# Altium schematic symbol library RCU.SchLib: 177 symbols (part 1 of 2)
Pins are listed as number, name and electrical type; pins without a type are passive.

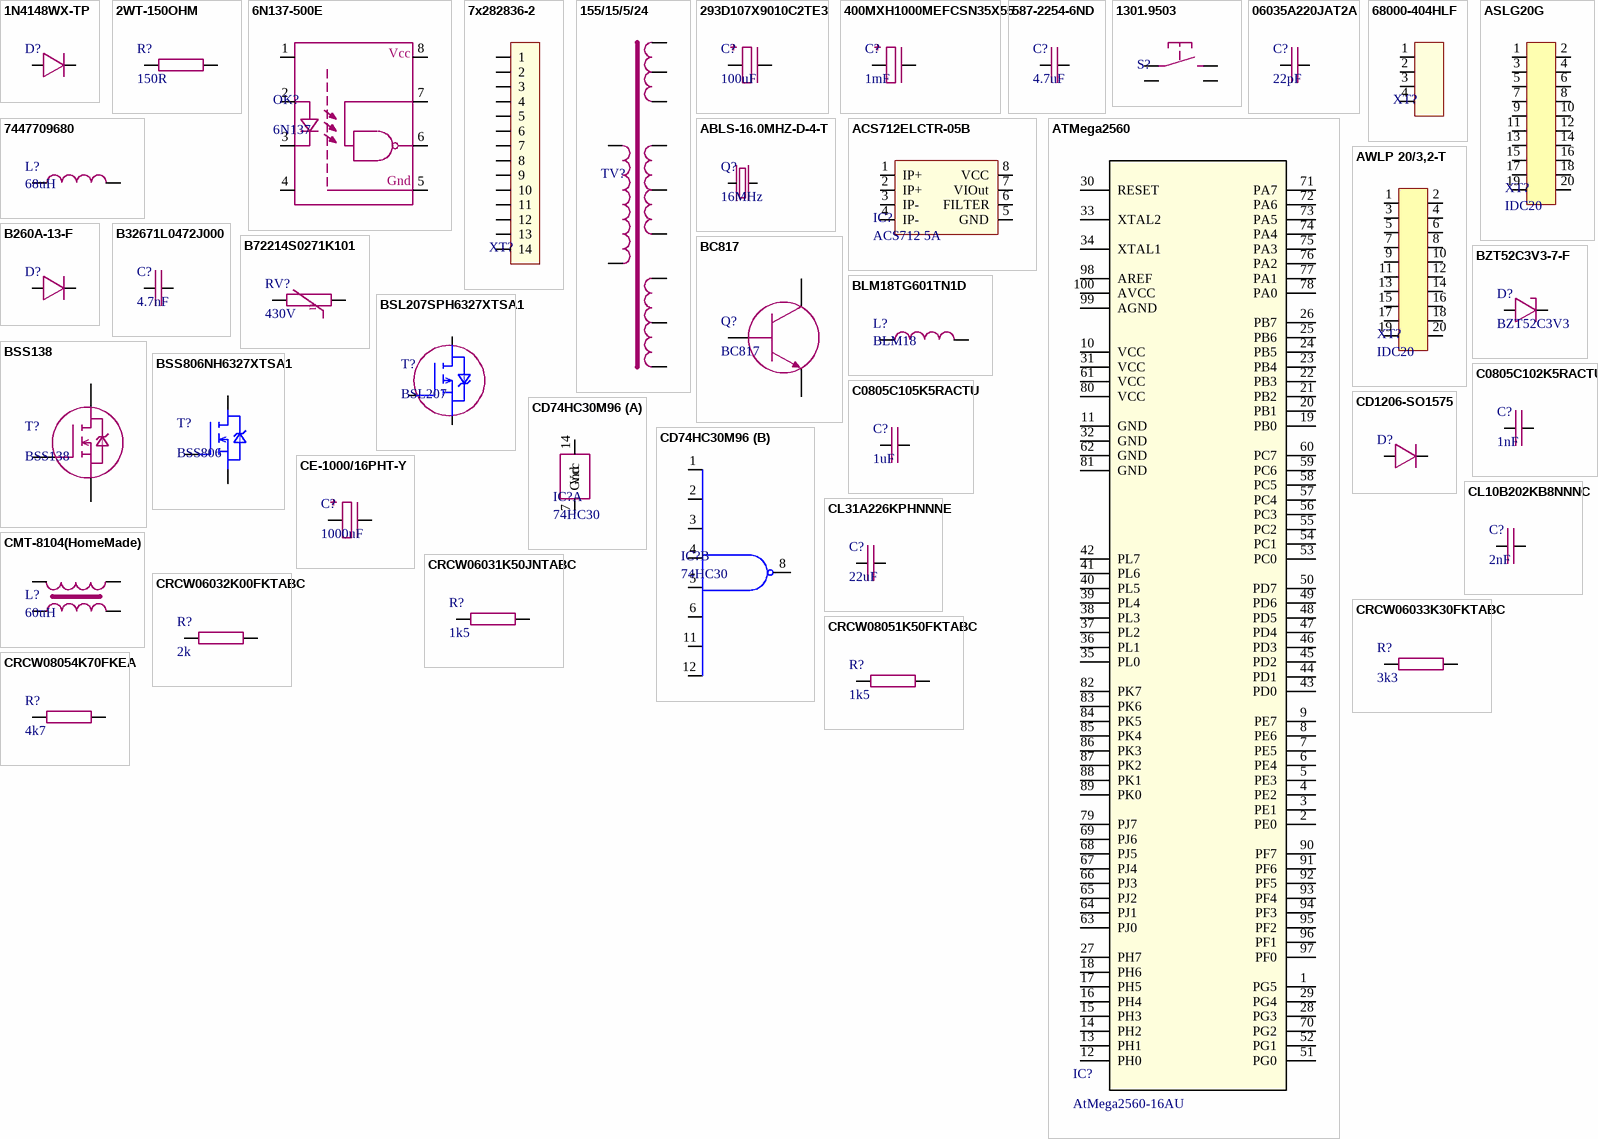
[diagram p0: symbols 1N4148WX-TP to CRCW08054K70FKEA]

## 1N4148WX-TP
designator D?, comment 1N4148W  (value not drawn)
DIODE GEN PURP 75V 150MA SOD323; Manufacturer Part Number: 1N4148WX-TP; Category: Discrete Semiconductor Products; Package / Case: SC-76, SOD-323; Base Part Number: 1N4148WX
footprint SOD323 (diode(in SMD pack))
pins: 1 Anode, 2 Cathode

## 2WT-150OHM
designator R?, comment 150R
RES THT 150 OHM 5% 2W; Manufacturer Part Number: 2WT-150OHM; Category: Resistors
footprint Resistor_2W-2 (15mm)
pins: 1, 2

## 6N137-500E
designator OK?, comment 6N137
OPTOISO 3.75KV OPEN COLL 8DIP GW; Manufacturer Part Number: 6N137-500E; Category: Isolators; Package / Case: 8-SMD, Gull Wing; ComponentLink1URL: http://www.vishay.com/docs/83622/il300.pdf; ComponentLink1Description: http://www.vishay.com/docs/83622/il300.pdf
footprint PDIP8_SMD
pins: 1 N/C, 2 Anode, 3 Cathode, 4 N/C, 5 Vee, 6 Vo, 7 Vo, 8 Vcc
text: Gnd

## 7x282836-2
designator XT?  (value not drawn)
TERM BLOCK 7x2POS 5MM PCB HORIZ; Manufacturer Part Number: 282836-2; Category: Connectors, Interconnects
footprint Terminal 7x2 5mm Pitch (Terminal BLOCK 5mm, 7x 2 wires)
pins: 1, 2, 3, 4, 5, 6, 7, 8, 9, 10, 11, 12, 13, 14

## 155/15/5/24
designator TV?, comment Main  (value not drawn)
Manufacturer Part Number: CMT-8104(HomeMade); Category: Filters; Package / Case: Vertical, 4 PC Pin
footprint TVMain
pins: 1 INPUT, 2 INPUT, 4, 5, 6, 7, 8, 9, 10, 11, 12

## 293D107X9010C2TE3
designator C?, comment 100uF
CAP TANT 100UF 10V 10% 2312; Manufacturer Part Number: 293D107X9010C2TE3; Category: Capacitors; Package / Case: 2312 (6032 Metric)
footprint 2312(Tantal C)
pins: 1 +, 2 -

## 400MXH1000MEFCSN35X55
designator C?, comment 1mF
CAP ALUM 1000UF 20% 400V SNAP; Manufacturer Part Number: 400MXH1000MEFCSN35X55; Category: Capacitors; Package / Case: Radial, Can - Snap-In
footprint CAP400x1000
pins: 1 +, 2 -

## 587-2254-6ND
designator C?, comment 4.7uF
CAP CER 4.7UF 35V Y5V 1206; Manufacturer Part Number: GMK316F475ZG-T; Category: Capacitors; Package / Case: 1206 (3216 Metric)
footprint C1206
pins: 1, 2

## 1301.9503
designator S?  (value not drawn)
SWITCH TACTILE HOR SPST-NO 0.05A 12V; Manufacturer Part Number: 1301.9503; Category: Switches
footprint SW_TACT_HOR
pins: 1, 2, 3, 4

## 06035A220JAT2A
designator C?, comment 22pF
CAP CER 22PF 50V C0G/NP0 0603; Manufacturer Part Number: 06035A220JAT2A; Category: Capacitors; Package / Case: 0603 (1608 Metric); ComponentLink3URL: http://datasheets.avx.com/C0GNP0-Dielectric.pdf; ComponentLink3Description: http://datasheets.avx.com/C0GNP0-Dielectric.pdf
footprint C0603
pins: 1, 2

## 68000-404HLF
designator XT?, comment PLS-4  (value not drawn)
CONN HEADER 4POS .100 STR TIN; Manufacturer Part Number: 68000-404HLF; Category: Connectors, Interconnects
footprint PLS-4
pins: 1, 2, 3, 4

## 7447709680
designator L?, comment 68uH
FIXED IND 68UH 3.2A 89 MOHM SMD; Manufacturer Part Number: 7447709680; Category: Inductors, Coils, Chokes; Package / Case: Nonstandard(12.8x12.8)
footprint B82477G4
pins: 1, 2

## ABLS-16.0MHZ-D-4-T
designator Q?, comment 16MHz
CRYSTAL 16.0000MHZ 18PF SMD; Manufacturer Part Number: ABLS-16.000MHZ-D-4-T; Package / Case: HC49/US; Category: Crystals, Oscillators, Resonators
footprint CrystalSMD (HC/49US (AT49) SMD LOW PROFILE CRYSTAL)
pins: 1, 2

## ACS712ELCTR-05B
designator IC?, comment ACS712 5A
SENSOR CURRENT HALL 5A AC/DC; Manufacturer Part Number: ACS712ELCTR-05B-T; Category: Sensors, Transducers; Package / Case: 8-SOIC (0.154", 3.90mm Width)
footprint SOIC_N (SOIC, 8-Leads, Body 4.9x3.9mm, Pitch 1.27mm, IPC Medium Density)
pins: 1 IP+, 2 IP+, 3 IP-, 4 IP-, 5 GND, 6 FILTER, 7 VIOut, 8 VCC

## ASLG20G
designator XT?, comment IDC20
CONN DIP 20POS .1" X .1" TIN; Manufacturer Part Number: ASLG20G; Category: Connectors, Interconnects
footprint IDC20Vert
pins: 1, 2, 3, 4, 5, 6, 7, 8, 9, 10, 11, 12, 13, 14, 15, 16, 17, 18, 19, 20

## ATMega2560
designator IC?, comment AtMega2560-16AU
IC MCU 8BIT 256KB FLASH 100TQFP; Category: Integrated Circuits (ICs); Manufacturer Part Number: ATMEGA2560-16AU; Package / Case: 100-TQFP
footprint 100TQFN (Thin QFP, 100-Leads, Body 14x14mm, Pitch 0.5mm, IPC Medium Density)
pins: 1 PG5, 2 PE0, 3 PE1, 4 PE2, 5 PE3, 6 PE4, 7 PE5, 8 PE6, 9 PE7, 10 VCC, 11 GND, 12 PH0, 13 PH1, 14 PH2, 15 PH3, 16 PH4, 17 PH5, 18 PH6, 19 PB0, 20 PB1, 21 PB2, 22 PB3, 23 PB4, 24 PB5, 25 PB6, 26 PB7, 27 PH7, 28 PG3, 29 PG4, 30 RESET, 31 VCC, 32 GND, 33 XTAL2, 34 XTAL1, 35 PL0, 36 PL1, 37 PL2, 38 PL3, 39 PL4, 40 PL5, 41 PL6, 42 PL7, 43 PD0, 44 PD1, 45 PD2, 46 PD3, 47 PD4, 48 PD5, 49 PD6, 50 PD7, 51 PG0, 52 PG1, 53 PC0, 54 PC1, 55 PC2, 56 PC3, 57 PC4, 58 PC5, 59 PC6, 60 PC7, 61 VCC, 62 GND, 63 PJ0, 64 PJ1, 65 PJ2, 66 PJ3, 67 PJ4, 68 PJ5, 69 PJ6, 70 PG2, 71 PA7, 72 PA6, 73 PA5, 74 PA4, 75 PA3, 76 PA2, 77 PA1, 78 PA0, 79 PJ7, 80 VCC, 81 GND, 82 PK7, 83 PK6, 84 PK5, 85 PK4, 86 PK3, 87 PK2, 88 PK1, 89 PK0, 90 PF7, 91 PF6, 92 PF5, 93 PF4, 94 PF3, 95 PF2, 96 PF1, 97 PF0, 98 AREF, 99 AGND, 100 AVCC

## AWLP 20/3,2-T
designator XT?, comment IDC20
CONN DIP 20POS .1" X .1" TIN; Manufacturer Part Number: AWLP 20/3,2-T; Category: Connectors, Interconnects
footprint IDC20Vert1
pins: 1, 2, 3, 4, 5, 6, 7, 8, 9, 10, 11, 12, 13, 14, 15, 16, 17, 18, 19, 20

## B260A-13-F
designator D?  (value not drawn)
DIODE SCHOTTKY 2A 40V SMA; Category: Discrete Semiconductor Products; Manufacturer Part Number: B260A-13-F; Package / Case: DO-214AC, SMA
footprint SMA (4007 diode(in SMD pack))
pins: 1 Anode, 2 Cathode

## B32671L0472J000
designator C?, comment 4.7nF
CAP FILM 4700PF 5% 1KVDC RADIAL; Manufacturer Part Number: B32671L0472J000; Category: Capacitors; Package / Case: Radial
footprint CAPPeach10mm
pins: 1, 2

## B72214S0271K101
designator RV?, comment 430V
VARISTOR 430V 4.5KA DISC 14MM; Manufacturer Part Number: B72214S0271K101; Category: Resistors; Package / Case: Disc 14mm
footprint S20K275 (Varistor EPCOS)
pins: 1, 2
text: u

## BC817
designator Q?
TRANS NPN 45V 0.5A SOT-23; Manufacturer Part Number: BC817-40LT3G; Category: Discrete Semiconductor Products; Package / Case: SOT-23-3
footprint SOT-23
pins: 1 gate, 2 emitter, 3 collector

## BLM18TG601TN1D
designator L?, comment BLM18
FERRITE BEAD 600 OHM 0603 1LN; Manufacturer Part Number: BLM18TG601TN1D; Category: Filters; Package / Case: 0603 (1608 Metric)
footprint L0603
pins: 1, 2

## BSL207SPH6327XTSA1
designator T?, comment BSL207
MOSFET P-CH 20V 6A 6TSOP; Manufacturer Part Number: BSL207SPH6327XTSA1; Category: Discrete Semiconductor Products; Package / Case: SOT-23-6 Thin, TSOT-23-6
footprint SOT23-6 - mosfet (SOT23, 6-Leads, Body 2,90x2,85mm, Pitch 0,95mm, IPC Medium Density)
pins: 1 GATE, 2 DRAIN, 3 SOURSE

## BSS138
designator T?
MOSFET N-CH 50V 220MA SOT-23; Category: Discrete Semiconductor Products; Manufacturer Part Number: BSS138; Package / Case: TO-236-3, SC-59, SOT-23-3
footprint SOT95P240X120-3N (SOT23, 3-Leads, Body 2,92x2,40mm, Pitch 0,95mm, IPC Medium Density)
pins: 1 GATE, 2 SOURSE, 3 DRAIN

## BSS806NH6327XTSA1
designator T?, comment BSS806
MOSFET N-CH 20V 2.3A SOT23; Manufacturer Part Number: BSS806NH6327XTSA1; Category: Discrete Semiconductor Products; Package / Case: TO-236-3, SC-59, SOT-23-3
footprint SOT-23
pins: 1 GATE, 2 SOURSE, 3 DRAIN

## BZT52C3V3-7-F
designator D?, comment BZT52C3V3
Diode Zener Single 3.3V 6% 370mW 2-Pin SOD-123 T/R; Manufacturer Part Number: BZT52C3V3-7-F; Category: Discrete Semiconductor Products; Package / Case: SOD-123
footprint SOD123 (diode(in SMD pack))
pins: 1 Anode, 2 Cathode

## C0805C102K5RACTU
designator C?, comment 1nF
CAP CER 1000PF 50V X7R 0805; Manufacturer Part Number: C0805C102K5RACTU; Category: Capacitors; Package / Case: 0805 (2012 Metric)
footprint C0805
pins: 1, 2

## C0805C105K5RACTU
designator C?, comment 1uF
CAP CER 1UF 50V X7R 0805; Manufacturer Part Number: C0805C105K5RACTU; Category: Capacitors; Package / Case: 0805 (2012 Metric)
footprint C0805
pins: 1, 2

## CD74HC30M96
designator IC?, comment 74HC30
IC GATE NAND 1CH 8-INP 14-SOIC; Manufacturer Part Number: CD74HC30M96; Category: Integrated Circuits (ICs); Package / Case: 14-SOIC (0.154", 3.90mm Width)
footprint SOIC-14N (SOIC, 14-Leads, Body 8,65x3,90mm, Pitch 1,27mm, IPC Medium Density)
part A pins: 7 Gnd, 14 Vcc
part B pins: 1, 2, 3, 4, 5, 6, 8, 11, 12

## CD1206-SO1575
designator D?  (value not drawn)
DIODE GEN PURP 100V 150MA 1206; Manufacturer Part Number: CD1206-S01575; Category: Discrete Semiconductor Products; Package / Case: 1206 (3216 Metric)
footprint D1206
pins: 1 Anode, 2 Cathode

## CE-1000/16PHT-Y
designator C?, comment 1000uF
CAP ALUM 1000UF 20% 16V RADIAL; Manufacturer Part Number: CE-1000/16PHT-Y; Category: Capacitors; Package / Case: Radial, Can
footprint CAP10x12
pins: 1 +, 2 -

## CL10B202KB8NNNC
designator C?, comment 2nF
CAP CER 2000PF 50V X7R 0603; Manufacturer Part Number: CL10B202KB8NNNC; Category: Capacitors; Package / Case: 0603 (1608 Metric); ComponentLink1URL: https://search.kemet.com/component-edge/download/datasheet/C0603C104K5RACTU.pdf; ComponentLink1Description: https://search.kemet.com/component-edge/download/datasheet/C0603C104K5RACTU.pdf; ComponentLink2URL: http://media.digikey.com/pdf/Data%20Sheets/Samsung%20PDFs/CL_Series_MLCC_ds.pdf; ComponentLink2Description: http://media.digikey.com/pdf/Data%20Sheets/Samsung%20PDFs/CL_Series_MLCC_ds.pdf
footprint C0603
pins: 1, 2

## CL31A226KPHNNNE
designator C?, comment 22uF
CAP CER 22UF 10V X5R 1206; Manufacturer Part Number: CL31A226KPHNNNE; Category: Capacitors; Package / Case: 1206 (3216 Metric)
footprint C1206
pins: 1, 2

## CMT-8104(HomeMade)
designator L?, comment 60uH
COMMON MODE CHOKE 30A 2LN TH; Manufacturer Part Number: CMT-8104(HomeMade); Category: Filters; Package / Case: Vertical, 4 PC Pin
footprint Inductor (Common Mode Inductor)
pins: 1, 2, 3, 4

## CRCW06031K50JNTABC
designator R?, comment 1k5
RES SMD 1K5 OHM 5% 1/10W 0603; Manufacturer Part Number: CRCW06031K50JNTABC; Category: Resistors; Package / Case: 0603 (1608 Metric)
footprint R0603
pins: 1, 2

## CRCW06032K00FKTABC
designator R?, comment 2k
RES SMD 2K OHM 1% 1/10W 0603; Manufacturer Part Number: CRCW06032K00FKTABC; Category: Resistors; Package / Case: 0603 (1608 Metric)
footprint R0603
pins: 1, 2

## CRCW06033K30FKTABC
designator R?, comment 3k3
RES SMD 3.3K OHM 1% 1/10W 0603; Manufacturer Part Number: CRCW06033K30FKTABC; Category: Resistors; Package / Case: 0603 (1608 Metric)
footprint R0603
pins: 1, 2

## CRCW08051K50FKTABC
designator R?, comment 1k5
RES SMD 1.5K OHM 1% 1/8W 0805; Manufacturer Part Number: CRCW08051K50FKTABC; Category: Resistors; Package / Case: 0805 (2012 Metric)
footprint R0805
pins: 1, 2

## CRCW08054K70FKEA
designator R?, comment 4k7
RES SMD 4.7K OHM 1% 1/8W 0805; Manufacturer Part Number: CRCW08054K70FKEA; Category: Resistors; Package / Case: 0805 (2012 Metric)
footprint R0805
pins: 1, 2

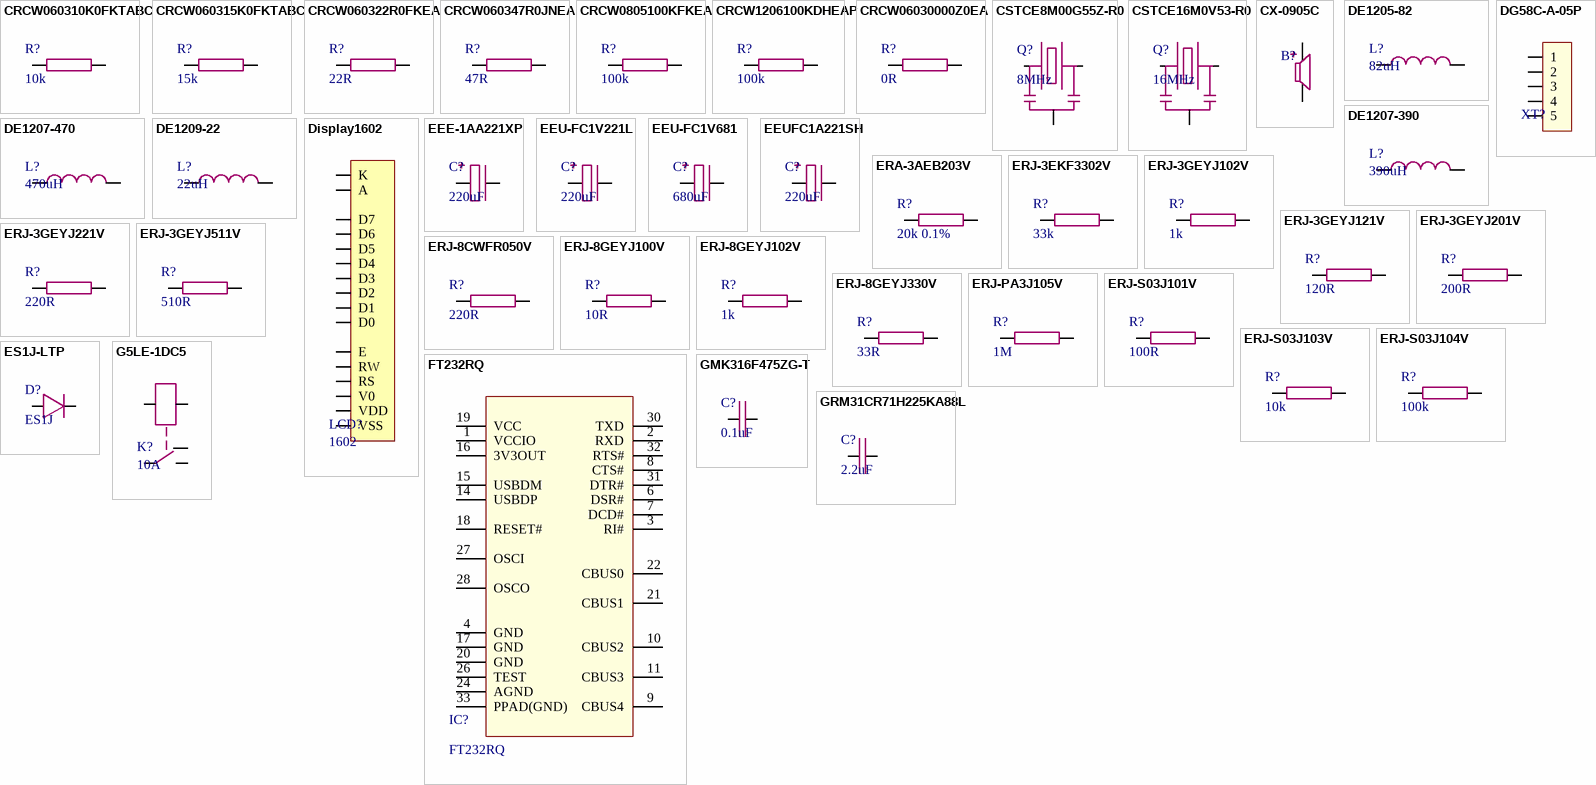
[diagram p1: symbols CRCW060310K0FKTABC to GRM31CR71H225KA88L]

## CRCW060310K0FKTABC
designator R?, comment 10k
RES SMD 10K OHM 1% 1/10W 0603; Manufacturer Part Number: CRCW060310K0FKTABC; Category: Resistors; Package / Case: 0603 (1608 Metric)
footprint R0603
pins: 1, 2

## CRCW060315K0FKTABC
designator R?, comment 15k
RES SMD 15K OHM 1% 1/10W 0603; Manufacturer Part Number: CRCW060315K0FKTABC; Category: Resistors; Package / Case: 0603 (1608 Metric)
footprint R0603
pins: 1, 2

## CRCW060322R0FKEA
designator R?, comment 22R
RES SMD 22 OHM 1% 1/10W 0603; Manufacturer Part Number: CRCW060322R0FKEA; Category: Resistors; Package / Case: 0603 (1608 Metric)
footprint R0603
pins: 1, 2

## CRCW060347R0JNEA
designator R?, comment 47R
RES SMD 47 OHM 5% 1/10W 0603; Manufacturer Part Number: CRCW060347R0JNEA; Category: Resistors; Package / Case: 0603 (1608 Metric)
footprint R0603
pins: 1, 2

## CRCW0805100KFKEA
designator R?, comment 100k
RES SMD 100K OHM 1% 1/8W 0805; Manufacturer Part Number: CRCW0805100KFKEA; Category: Resistors; Package / Case: 0805 (2012 Metric)
footprint R0805
pins: 1, 2

## CRCW1206100KDHEAP
designator R?, comment 100k
RES SMD 100K OHM 0.5% 1/4W 1206; Manufacturer Part Number: CRCW1206100KDHEAP; Category: Resistors; Package / Case: 1206 (3216 Metric)
footprint R1206
pins: 1, 2

## CRCW06030000Z0EA
designator R?, comment 0R
RES SMD 0 OHM JUMPER 1/10W 0603; Manufacturer Part Number: CRCW06030000Z0EA; Category: Resistors; Package / Case: 0603 (1608 Metric)
footprint R0603
pins: 1, 2

## CSTCE8M00G55Z-R0
designator Q?, comment 8MHz
CER RES 8.0000MHZ 33PF SMD; Manufacturer Part Number: CSTCE8M00G55Z-R0; Package / Case: 3-SMD, Non-Standard; Category: Crystals, Oscillators, Resonators; ComponentLink1URL: http://www.murata.com/~/media/webrenewal/support/library/catalog/products/timingdevice/ceralock/p16e.ashx; ComponentLink1Description: http://www.murata.com/~/media/webrenewal/support/library/catalog/products/timingdevice/ceralock/p16e.ashx
footprint CSTCE_V
pins: 1, 2, 3

## CSTCE16M0V53-R0
designator Q?, comment 16MHz
CER RES 16.0000MHZ 15PF SMD; Manufacturer Part Number: CSTCE16M0V53-R0; Package / Case: 3-SMD, Non-Standard; Category: Crystals, Oscillators, Resonators
footprint CSTCE_V
pins: 1, 2, 3

## CX-0905C
designator B?
AUDIO MAGNETIC INDICATOR 4-7V TH; Manufacturer Part Number: CX-0905C; Category: Audio Products; Package / Case: 0.378" Dia (9.60mm)/5mm pitch
footprint BUZZER
pins: 1 +, 2 -

## DE1205-82
designator L?, comment 82uH
FIXED IND 82UH 1.2A SMD; Manufacturer Part Number: DE1205-82; Category: Inductors, Coils, Chokes; Package / Case: Nonstandard(12x12)
footprint B82477G4
pins: 1, 2

## DE1207-390
designator L?, comment 390uH
FIXED IND 390UH 1.1A 572 MOHM SMD; Manufacturer Part Number: DE1207-390; Category: Inductors, Coils, Chokes; Package / Case: Nonstandard(10x10)
footprint B82477G4
pins: 1, 2

## DE1207-470
designator L?, comment 470uH
FIXED IND 470UH 1A 741 MOHM SMD; Manufacturer Part Number: DE1207-390; Category: Inductors, Coils, Chokes; Package / Case: Nonstandard(10x10)
footprint B82477G4
pins: 1, 2

## DE1209-22
designator L?, comment 22uH
FIXED IND 22UH 5A 39 MOHM SMD; Manufacturer Part Number: DE1209-22; Category: Inductors, Coils, Chokes; Package / Case: Nonstandard(12.6x12.6)
footprint B82477G4
pins: 1, 2

## DG58C-A-05P
designator XT?  (value not drawn)
TERM BLOCK 5POS 10MM PITCH; Manufacturer Part Number: DG58C-A-05P; Category: Connectors, Interconnects
footprint DG58C-A-05 (Connector 10mm pitch)
pins: 1, 2, 3, 4, 5

## Display1602
designator LCD?, comment 1602
DISP 1602 THT
footprint Display1602
pins: 1 VSS, 2 VDD, 3 V0, 4 RS, 5 RW, 6 E, 7 D0, 8 D1, 9 D2, 10 D3, 11 D4, 12 D5, 13 D6, 14 D7, 15 A, 16 K

## EEE-1AA221XP
designator C?, comment 220uF
CAP ALUM 220UF 20% 10V SMD; Manufacturer Part Number: EEE-1AA221XP; Category: Capacitors; Package / Case: Radial, Can - SMD
footprint CAPAE_D8_7866X77M (Aluminum Electrolytic Capacitor, Body 6,60x6,60x7.70mm, IPC Low Density)
pins: 1 +, 2 -

## EEU-FC1V221L
designator C?, comment 220uF
CAP ALUM 220UF 20% 35V RADIAL; Manufacturer Part Number: EEU-FC1V221L; Category: Capacitors; Package / Case: Radial, Can
footprint CAP10x12
pins: 1 +, 2 -

## EEU-FC1V681
designator C?, comment 680uF
CAP ALUM 680UF 20% 35V RADIAL; Manufacturer Part Number: EEU-FC1V681; Category: Capacitors; Package / Case: Radial, Can
footprint CAP12.5x20 (5mm Pitch)
pins: 1 +, 2 -

## EEUFC1A221SH
designator C?, comment 220uF
CAP ALUM 220UF 20% 10V RADIAL; Manufacturer Part Number: EEUFC1A221SH; Category: Capacitors; Package / Case: Radial, Can
footprint CAP6x11_Hor (2mm Pitch)
pins: 1 +, 2 -

## ERA-3AEB203V
designator R?, comment 20k 0.1%
RES SMD 20K OHM 0.1% 1/10W 0603; Manufacturer Part Number: ERA-3AEB203V; Category: Resistors; Package / Case: 0603 (1608 Metric); ComponentLink1URL: https://industrial.panasonic.com/cdbs/www-data/pdf/RDA0000/AOA0000C304.pdf; ComponentLink1Description: https://industrial.panasonic.com/cdbs/www-data/pdf/RDA0000/AOA0000C304.pdf; ComponentLink2URL: https://industrial.panasonic.com/cdbs/www-data/pdf/RDM0000/AOA0000C307.pdf; ComponentLink2Description: https://industrial.panasonic.com/cdbs/www-data/pdf/RDM0000/AOA0000C307.pdf
footprint R0603
pins: 1, 2

## ERJ-3EKF3302V
designator R?, comment 33k
RES SMD 33K OHM 1% 1/10W 0603; Manufacturer Part Number: ERJ-3EKF3302V; Category: Resistors; Package / Case: 0603 (1608 Metric); ComponentLink1URL: https://industrial.panasonic.com/cdbs/www-data/pdf/RDA0000/AOA0000C304.pdf; ComponentLink1Description: https://industrial.panasonic.com/cdbs/www-data/pdf/RDA0000/AOA0000C304.pdf; ComponentLink2URL: https://industrial.panasonic.com/cdbs/www-data/pdf/RDM0000/AOA0000C307.pdf; ComponentLink2Description: https://industrial.panasonic.com/cdbs/www-data/pdf/RDM0000/AOA0000C307.pdf
footprint R0603
pins: 1, 2

## ERJ-3GEYJ102V
designator R?, comment 1k
RES SMD 1K OHM 5% 1/10W 0603; Manufacturer Part Number: ERJ-3GEYJ102V; Category: Resistors; Package / Case: 0603 (1608 Metric); ComponentLink1URL: https://industrial.panasonic.com/cdbs/www-data/pdf/RDA0000/AOA0000C304.pdf; ComponentLink1Description: https://industrial.panasonic.com/cdbs/www-data/pdf/RDA0000/AOA0000C304.pdf; ComponentLink2URL: http://industrial.panasonic.com/www-cgi/jvcr13pz.cgi?E+PZ+3+AOA0005+ERJS03J101V+7+WW; ComponentLink2Description: http://industrial.panasonic.com/www-cgi/jvcr13pz.cgi?E+PZ+3+AOA0005+ERJS03J101V+7+WW; ComponentLink3URL: https://industrial.panasonic.com/cdbs/www-data/pdf/RDO0000/AOA0000C331.pdf; ComponentLink3Description: https://industrial.panasonic.com/cdbs/www-data/pdf/RDO0000/AOA0000C331.pdf
footprint R0603
pins: 1, 2

## ERJ-3GEYJ121V
designator R?, comment 120R
RES SMD 120 OHM 5% 1/10W 0603; Manufacturer Part Number: ERJ-3GEYJ121V; Category: Resistors; Package / Case: 0603 (1608 Metric); ComponentLink3URL: https://industrial.panasonic.com/cdbs/www-data/pdf/RDO0000/AOA0000C331.pdf; ComponentLink3Description: https://industrial.panasonic.com/cdbs/www-data/pdf/RDO0000/AOA0000C331.pdf
footprint R0603
pins: 1, 2

## ERJ-3GEYJ201V
designator R?, comment 200R
RES SMD 200 OHM 5% 1/10W 0603; Manufacturer Part Number: ERJ-3GEYJ201V; Category: Resistors; Package / Case: 0603 (1608 Metric); ComponentLink1URL: https://industrial.panasonic.com/cdbs/www-data/pdf/RDA0000/AOA0000C304.pdf; ComponentLink1Description: https://industrial.panasonic.com/cdbs/www-data/pdf/RDA0000/AOA0000C304.pdf; ComponentLink2URL: http://industrial.panasonic.com/www-cgi/jvcr13pz.cgi?E+PZ+3+AOA0005+ERJS03J101V+7+WW; ComponentLink2Description: http://industrial.panasonic.com/www-cgi/jvcr13pz.cgi?E+PZ+3+AOA0005+ERJS03J101V+7+WW; ComponentLink3URL: https://industrial.panasonic.com/cdbs/www-data/pdf/RDO0000/AOA0000C331.pdf; ComponentLink3Description: https://industrial.panasonic.com/cdbs/www-data/pdf/RDO0000/AOA0000C331.pdf
footprint R0603
pins: 1, 2

## ERJ-3GEYJ221V
designator R?, comment 220R
RES SMD 220 OHM 5% 1/10W 0603; Manufacturer Part Number: ERJ-3GEYJ221V; Category: Resistors; Package / Case: 0603 (1608 Metric); ComponentLink1URL: https://industrial.panasonic.com/cdbs/www-data/pdf/RDA0000/AOA0000C304.pdf; ComponentLink1Description: https://industrial.panasonic.com/cdbs/www-data/pdf/RDA0000/AOA0000C304.pdf; ComponentLink2URL: http://industrial.panasonic.com/www-cgi/jvcr13pz.cgi?E+PZ+3+AOA0005+ERJS03J101V+7+WW; ComponentLink2Description: http://industrial.panasonic.com/www-cgi/jvcr13pz.cgi?E+PZ+3+AOA0005+ERJS03J101V+7+WW; ComponentLink3URL: https://industrial.panasonic.com/cdbs/www-data/pdf/RDO0000/AOA0000C331.pdf; ComponentLink3Description: https://industrial.panasonic.com/cdbs/www-data/pdf/RDO0000/AOA0000C331.pdf
footprint R0603
pins: 1, 2

## ERJ-3GEYJ511V
designator R?, comment 510R
RES SMD 510 OHM 5% 1/10W 0603; Manufacturer Part Number: ERJ-3GEYJ511V; Category: Resistors; Package / Case: 0603 (1608 Metric)
footprint R0603
pins: 1, 2

## ERJ-8CWFR050V
designator R?, comment 220R
RES SMD 220 OHM 1% 1/4W 1206; Manufacturer Part Number: ERJ-8ENF2200V; Category: Resistors; Package / Case: 1206 (3216 Metric); ComponentLink1URL: https://industrial.panasonic.com/cdbs/www-data/pdf/RDA0000/AOA0000C304.pdf; ComponentLink1Description: https://industrial.panasonic.com/cdbs/www-data/pdf/RDA0000/AOA0000C304.pdf
footprint R1206
pins: 1, 2

## ERJ-8GEYJ100V
designator R?, comment 10R
RES SMD 10 OHM 5% 1/4W 1206; Manufacturer Part Number: ERJ-8GEYJ100V; Category: Resistors; Package / Case: 1206 (3216 Metric); ComponentLink1URL: https://industrial.panasonic.com/cdbs/www-data/pdf/RDA0000/AOA0000C304.pdf; ComponentLink1Description: https://industrial.panasonic.com/cdbs/www-data/pdf/RDA0000/AOA0000C304.pdf; ComponentLink2URL: http://industrial.panasonic.com/www-cgi/jvcr13pz.cgi?E+PZ+3+AOA0005+ERJS03J101V+7+WW; ComponentLink2Description: http://industrial.panasonic.com/www-cgi/jvcr13pz.cgi?E+PZ+3+AOA0005+ERJS03J101V+7+WW
footprint R1206
pins: 1, 2

## ERJ-8GEYJ102V
designator R?, comment 1k
RES SMD 1K OHM 5% 1/4W 1206; Manufacturer Part Number: ERJ-8GEYJ102V; Category: Resistors; Package / Case: 1206 (3216 Metric); ComponentLink1URL: https://industrial.panasonic.com/cdbs/www-data/pdf/RDA0000/AOA0000C304.pdf; ComponentLink1Description: https://industrial.panasonic.com/cdbs/www-data/pdf/RDA0000/AOA0000C304.pdf; ComponentLink2URL: http://industrial.panasonic.com/www-cgi/jvcr13pz.cgi?E+PZ+3+AOA0005+ERJS03J101V+7+WW; ComponentLink2Description: http://industrial.panasonic.com/www-cgi/jvcr13pz.cgi?E+PZ+3+AOA0005+ERJS03J101V+7+WW
footprint R1206
pins: 1, 2

## ERJ-8GEYJ330V
designator R?, comment 33R
RES SMD 33 OHM 5% 1/4W 1206; Manufacturer Part Number: ERJ-8GEYJ330V; Category: Resistors; Package / Case: 1206 (3216 Metric); ComponentLink1URL: https://industrial.panasonic.com/cdbs/www-data/pdf/RDA0000/AOA0000C304.pdf; ComponentLink1Description: https://industrial.panasonic.com/cdbs/www-data/pdf/RDA0000/AOA0000C304.pdf; ComponentLink2URL: http://industrial.panasonic.com/www-cgi/jvcr13pz.cgi?E+PZ+3+AOA0005+ERJS03J101V+7+WW; ComponentLink2Description: http://industrial.panasonic.com/www-cgi/jvcr13pz.cgi?E+PZ+3+AOA0005+ERJS03J101V+7+WW
footprint R1206
pins: 1, 2

## ERJ-PA3J105V
designator R?, comment 1M
RES SMD 1M OHM 5% 1/4W 0603; Manufacturer Part Number: ERJ-PA3J105V; Category: Resistors; Package / Case: 0603 (1608 Metric); ComponentLink1URL: https://industrial.panasonic.com/cdbs/www-data/pdf/RDA0000/AOA0000C304.pdf; ComponentLink1Description: https://industrial.panasonic.com/cdbs/www-data/pdf/RDA0000/AOA0000C304.pdf; ComponentLink2URL: http://industrial.panasonic.com/www-cgi/jvcr13pz.cgi?E+PZ+3+AOA0005+ERJS03J101V+7+WW; ComponentLink2Description: http://industrial.panasonic.com/www-cgi/jvcr13pz.cgi?E+PZ+3+AOA0005+ERJS03J101V+7+WW; ComponentLink3URL: https://industrial.panasonic.com/cdbs/www-data/pdf/RDO0000/AOA0000C331.pdf; ComponentLink3Description: https://industrial.panasonic.com/cdbs/www-data/pdf/RDO0000/AOA0000C331.pdf
footprint R0603
pins: 1, 2

## ERJ-S03J101V
designator R?, comment 100R
RES SMD 100 OHM 5% 1/10W 0603; Manufacturer Part Number: ERJ-S03J101V; Category: Resistors; Package / Case: 0603 (1608 Metric); ComponentLink1URL: https://industrial.panasonic.com/cdbs/www-data/pdf/RDA0000/AOA0000C304.pdf; ComponentLink1Description: https://industrial.panasonic.com/cdbs/www-data/pdf/RDA0000/AOA0000C304.pdf; ComponentLink2URL: http://industrial.panasonic.com/www-cgi/jvcr13pz.cgi?E+PZ+3+AOA0005+ERJS03J101V+7+WW; ComponentLink2Description: http://industrial.panasonic.com/www-cgi/jvcr13pz.cgi?E+PZ+3+AOA0005+ERJS03J101V+7+WW
footprint R0603
pins: 1, 2

## ERJ-S03J103V
designator R?, comment 10k
RES SMD 10K OHM 5% 1/10W 0603; Manufacturer Part Number: ERJ-S03J103V; Category: Resistors; Package / Case: 0603 (1608 Metric); ComponentLink1URL: https://industrial.panasonic.com/cdbs/www-data/pdf/RDA0000/AOA0000C304.pdf; ComponentLink1Description: https://industrial.panasonic.com/cdbs/www-data/pdf/RDA0000/AOA0000C304.pdf; ComponentLink2URL: http://industrial.panasonic.com/www-cgi/jvcr13pz.cgi?E+PZ+3+AOA0005+ERJS03J101V+7+WW; ComponentLink2Description: http://industrial.panasonic.com/www-cgi/jvcr13pz.cgi?E+PZ+3+AOA0005+ERJS03J101V+7+WW; ComponentLink3URL: https://industrial.panasonic.com/cdbs/www-data/pdf/RDO0000/AOA0000C331.pdf; ComponentLink3Description: https://industrial.panasonic.com/cdbs/www-data/pdf/RDO0000/AOA0000C331.pdf
footprint R0603
pins: 1, 2

## ERJ-S03J104V
designator R?, comment 100k
RES SMD 100K OHM 5% 1/10W 0603; Manufacturer Part Number: ERJ-S03J104V; Category: Resistors; Package / Case: 0603 (1608 Metric); ComponentLink1URL: https://industrial.panasonic.com/cdbs/www-data/pdf/RDA0000/AOA0000C304.pdf; ComponentLink1Description: https://industrial.panasonic.com/cdbs/www-data/pdf/RDA0000/AOA0000C304.pdf; ComponentLink2URL: http://industrial.panasonic.com/www-cgi/jvcr13pz.cgi?E+PZ+3+AOA0005+ERJS03J101V+7+WW; ComponentLink2Description: http://industrial.panasonic.com/www-cgi/jvcr13pz.cgi?E+PZ+3+AOA0005+ERJS03J101V+7+WW; ComponentLink3URL: https://industrial.panasonic.com/cdbs/www-data/pdf/RDO0000/AOA0000C331.pdf; ComponentLink3Description: https://industrial.panasonic.com/cdbs/www-data/pdf/RDO0000/AOA0000C331.pdf
footprint R0603
pins: 1, 2

## ES1J-LTP
designator D?, comment ES1J
DIODE GEN PURP 600V 1A DO214AC; Manufacturer Part Number: ES1J-LTP; Category: Discrete Semiconductor Products; Package / Case: DO-214AC, SMA
footprint SMA (4007 diode(in SMD pack))
pins: 1 Anode, 2 Cathode

## FT232RQ
designator IC?
IC USB FS SERIAL UART 32-QFN; Manufacturer Part Number: FT232RQ-REEL; Category: Integrated Circuits (ICs); Package / Case: 32-VFQFN Exposed Pad
footprint QFN32-500X500X100_HS-33N (QFN, 32-Leads, Body 5,00x5,00mm, Pitch 0,50mm, Thermal Pad 3,20x3,20mm, IPC Medium Density)
pins: 1 VCCIO, 2 RXD, 3 RI#, 4 GND, 6 DSR#, 7 DCD#, 8 CTS#, 9 CBUS4, 10 CBUS2, 11 CBUS3, 14 USBDP, 15 USBDM, 16 3V3OUT, 17 GND, 18 RESET#, 19 VCC, 20 GND, 21 CBUS1, 22 CBUS0, 24 AGND, 26 TEST, 27 OSCI, 28 OSCO, 30 TXD, 31 DTR#, 32 RTS#, 33 PPAD(GND)

## G5LE-1DC5
designator K?, comment 10A
RELAY GEN PURPOSE SPDT 10A 5V; Manufacturer Part Number: G5LE-1 DC5; Category: Relays
footprint Relay22x16
pins: 1, 2, 3, 4, 5

## GMK316F475ZG-T
designator C?, comment 0.1uF
CAP CER 0.1UF 50V X7R 0603; Manufacturer Part Number: GMK316F475ZG-T; Category: Capacitors; Package / Case: 0603 (1608 Metric); ComponentLink1URL: https://search.kemet.com/component-edge/download/datasheet/C0603C104K5RACTU.pdf; ComponentLink1Description: https://search.kemet.com/component-edge/download/datasheet/C0603C104K5RACTU.pdf
footprint C0603
pins: 1, 2

## GRM31CR71H225KA88L
designator C?, comment 2.2uF
CAP CER 2.2UF 50V X7R 1206; Manufacturer Part Number: GRM31CR71H225KA88L; Category: Capacitors; Package / Case: 1206 (3216 Metric)
footprint C1206
pins: 1, 2

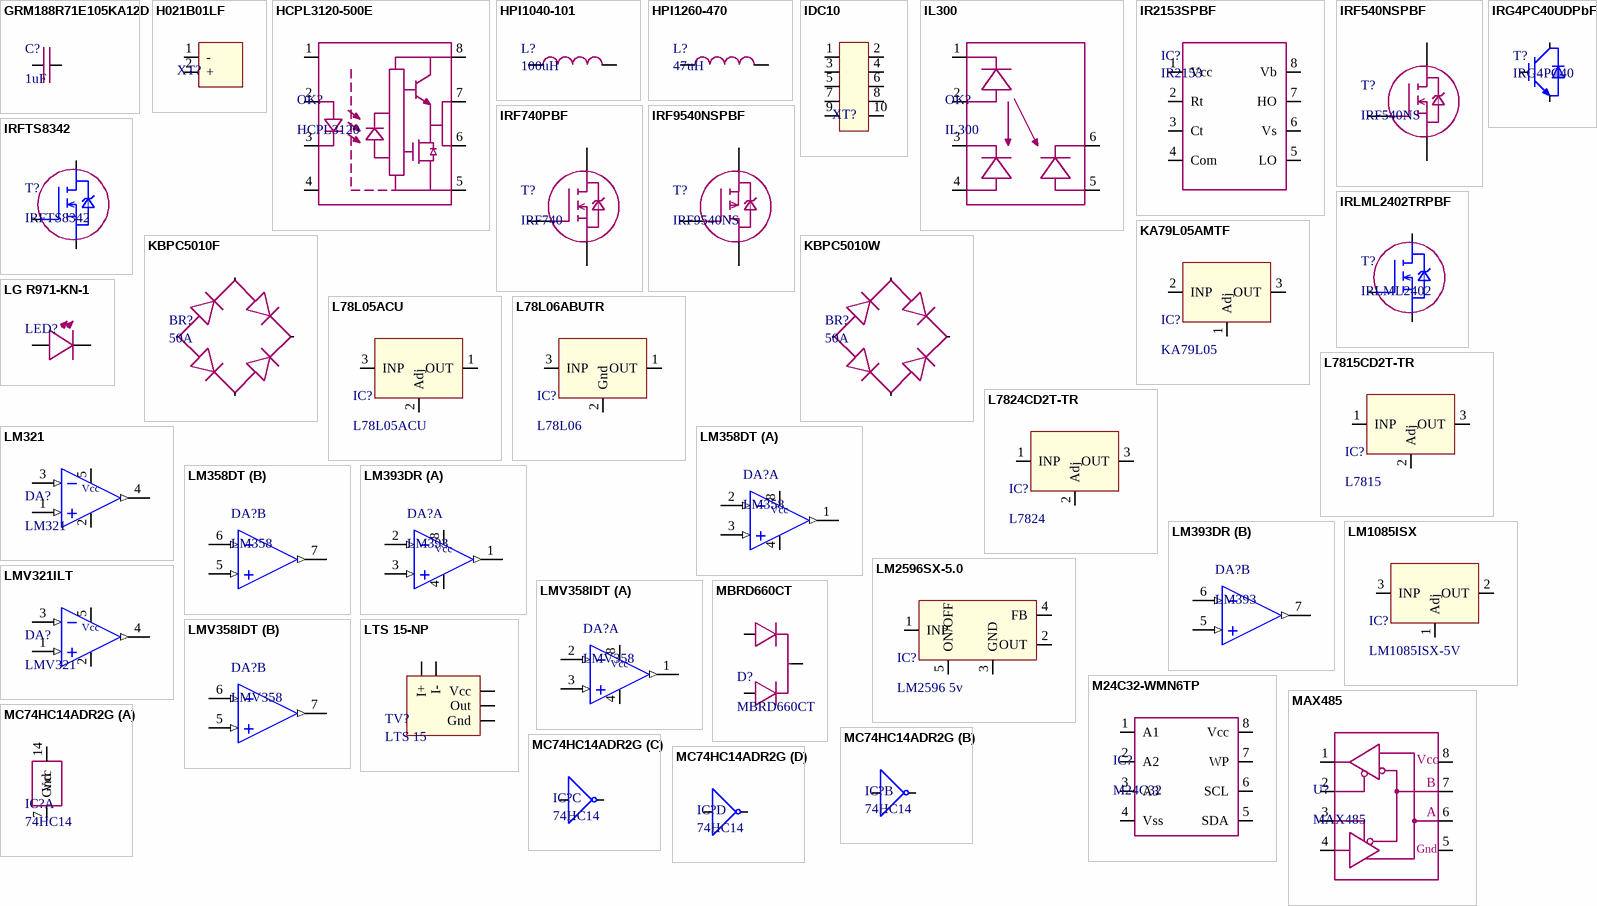
[diagram p2: symbols GRM188R71E105KA12D to MC74HC14ADR2G]

## GRM188R71E105KA12D
designator C?, comment 1uF
CAP CER 1UF 25V X7R 0603; Manufacturer Part Number: GRM188R71E105KA12D; Category: Capacitors; Package / Case: 0603 (1608 Metric)
footprint C0603
pins: 1, 2

## H021B01LF
designator XT?  (value not drawn)
TERM BLOCK 2POS 5.08MM PCB HORIZ; Manufacturer Part Number: 20020316-H021B01LF; Category: Connectors, Interconnects
footprint Terminal2X (Terminal BLOCK 5mm, 2 wires)
pins: 1 -, 2 +

## HCPL3120-500E
designator OK?, comment HCPL3120
OPTOISO 3.75KV GATE DRVR 8DIP GW; Manufacturer Part Number: HCPL-3120-500E; Category: Isolators; Package / Case: 8-SMD, Gull Wing; ComponentLink1URL: http://www.vishay.com/docs/83622/il300.pdf; ComponentLink1Description: http://www.vishay.com/docs/83622/il300.pdf; ComponentLink2URL: https://docs.broadcom.com/docs/AV02-0161EN; ComponentLink2Description: https://docs.broadcom.com/docs/AV02-0161EN
footprint PDIP8_SMD
pins: 1 N/C, 2 Anode, 3 Cathode, 4 N/C, 5 Vee, 6 Vo, 7 Vo, 8 Vcc

## HPI1040-101
designator L?, comment 100uH
FIXED IND 100UH 1.2A 300 MOHM SMD; Manufacturer Part Number: HPI1040-101; Category: Inductors, Coils, Chokes; Package / Case: Nonstandard(10x10)
footprint B82477G4
pins: 1, 2

## HPI1260-470
designator L?, comment 47uH
FIXED IND 47UH 3.5A 82 MOHM SMD; Manufacturer Part Number: HPI1260-470; Category: Inductors, Coils, Chokes; Package / Case: Nonstandard(12.6x12.6)
footprint B82477G4
pins: 1, 2

## IDC10
designator XT?  (value not drawn)
DIL VERTICAL PC TAIL PIN HEADER; Manufacturer Part Number: 67997-410HLF; Category: Connectors, Interconnects
footprint PLD10-2
pins: 1, 2, 3, 4, 5, 6, 7, 8, 9, 10

## IL300
designator OK?
OPTOISO 5.3KV PHVOLT 8SMD; Manufacturer Part Number: IL300-F-X009T; Category: Isolators; Package / Case: 8-SMD, Gull Wing; ComponentLink1URL: http://www.vishay.com/docs/83622/il300.pdf; ComponentLink1Description: http://www.vishay.com/docs/83622/il300.pdf
footprint PDIP8_SMD
pins: 1, 2, 3, 4, 5, 6

## IR2153SPBF
designator IC?, comment IR2153
IC DRIVER HALF BRIDGE OSC 8SOIC; Manufacturer Part Number: IR2153SPBF; Category: Integrated Circuits (ICs); Package / Case: 8-SOIC (0.154", 3.90mm Width)
footprint SOIC_L (SOIC, 8-Leads, Body 4.9x3.9mm, Pitch 1.27mm, IPC High Density)
pins: 1 Vcc, 2 Rt, 3 Ct, 4 Com, 5 LO, 6 Vs, 7 HO, 8 Vb

## IRF540NSPBF
designator T?, comment IRF540NS
MOSFET N-CH 100V 33A D2PAK; Manufacturer Part Number: IRF540NSPBF; Category: Discrete Semiconductor Products; Package / Case: TO-263-3, D²Pak (2 Leads + Tab), TO-263AB
footprint DPAK254P1542X460-3N (D2-PAK, 3-Pads, Body 7,65x8,56mm (max), IPC Medium Density)
pins: 1 GATE, 2 DRAIN, 3 SOURSE

## IRF740PBF
designator T?, comment IRF740
MOSFET N-CH 400V 10A TO-220AB; Manufacturer Part Number: IRF740PBF; Category: Discrete Semiconductor Products; Package / Case: TO-220-3
footprint TO-220 (TO-220, 3x0.8 , P-2.54)
pins: 1 GATE, 2 DRAIN, 3 SOURSE

## IRF9540NSPBF
designator T?, comment IRF9540NS
MOSFET P-CH 100V 23A D2PAK; Manufacturer Part Number: IRF9540NSPBF; Category: Discrete Semiconductor Products; Package / Case: TO-263-3, D²Pak (2 Leads + Tab), TO-263AB
footprint DPAK254P1542X460-3N (D2-PAK, 3-Pads, Body 7,65x8,56mm (max), IPC Medium Density)
pins: 1 GATE, 2 DRAIN, 3 SOURSE

## IRFTS8342
designator T?
MOSFET N-CH 30V 8.2A 6TSOP; Manufacturer Part Number: IRFTS8342TRPBF; Category: Discrete Semiconductor Products; Package / Case: SOT-23-6
footprint SOT23-6 - mosfet (SOT23, 6-Leads, Body 2,90x2,85mm, Pitch 0,95mm, IPC Medium Density)
pins: 1 GATE, 2 DRAIN, 3 SOURSE

## IRG4PC40UDPbF
designator T?, comment IRG4PC40
IGBT 600V 40A 160W TO247AC; Manufacturer Part Number: IRG4PC40UDPBF; Category: Discrete Semiconductor Products; Package / Case: TO-247-3
footprint TO-247 (FM, 3-Leads, Body 5.03x15.87mm, Pitch 5.44mm)
pins: 1 G, 2 C, 3 E

## IRLML2402TRPBF
designator T?, comment IRLML2402
MOSFET N-CH 20V 1.2A SOT-23; Manufacturer Part Number: IRLML2402TRPBF; Category: Discrete Semiconductor Products; Package / Case: TO-236-3, SC-59, SOT-23-3
footprint SOT-23
pins: 1 GATE, 2 SOURSE, 3 DRAIN

## KA79L05AMTF
designator IC?, comment KA79L05
IC REG LINEAR -5V 100MA SOT89-3; Manufacturer Part Number: KA79L05AMTF; Category: Integrated Circuits (ICs); Package / Case: TO-243AA
footprint SOT89-3 (SOT89, 3-Leads, Body 4,50x2,50mm, Pitch 1,50mm, Lead Span 3,6mm, IPC Medium Density)
pins: 1 Adj, 2 INP, 3 OUT

## KBPC5010F
designator BR?, comment 50A
BRIDGE DIODE GPP 50A 1000V SLOT; Manufacturer Part Number: KBPC5010W-G; Category: Discrete Semiconductor Products; Package / Case: 4-Square, KBPC-W; ComponentLink1URL: http://www.comchiptech.com/cms/UserFiles/KBPC10005W-G%20Thru242313.%20KBPC5010W-G%20Series%20RevC.pdf; ComponentLink1Description: http://www.comchiptech.com/cms/UserFiles/KBPC10005W-G%20Thru242313.%20KBPC5010W-G%20Series%20RevC.pdf
footprint MB_25 (DIODE BRIDGE)
pins: 1 -, 2 AC, 3 +, 4 AC

## KBPC5010W
designator BR?, comment 50A
BRIDGE DIODE GPP 50A 1000V KBPC-; Manufacturer Part Number: KBPC5010W-G; Category: Discrete Semiconductor Products; Package / Case: 4-Square, KBPC-W; ComponentLink1URL: http://www.comchiptech.com/cms/UserFiles/KBPC10005W-G%20Thru242313.%20KBPC5010W-G%20Series%20RevC.pdf; ComponentLink1Description: http://www.comchiptech.com/cms/UserFiles/KBPC10005W-G%20Thru242313.%20KBPC5010W-G%20Series%20RevC.pdf
footprint MB_25W (DIODE BRIDGE)
pins: 1 -, 2 AC, 3 +, 4 AC

## L78L05ACU
designator IC?
IC REG LINEAR 5V 100MA SOT89-3; Manufacturer Part Number: L78L05ACU; Category: Integrated Circuits (ICs); Package / Case: TO-243AA
footprint SOT89-3 (SOT89, 3-Leads, Body 4,50x2,50mm, Pitch 1,50mm, Lead Span 3,6mm, IPC Medium Density)
pins: 1 OUT, 2 Adj, 3 INP

## L78L06ABUTR
designator IC?, comment L78L06
IC REG LINEAR -6V 100MA SOT89-3; Manufacturer Part Number: L78L06ABUTR; Category: Integrated Circuits (ICs); Package / Case: TO-243AA
footprint SOT89-3 (SOT89, 3-Leads, Body 4,50x2,50mm, Pitch 1,50mm, Lead Span 3,6mm, IPC Medium Density)
pins: 1 OUT, 2 Gnd, 3 INP

## L7815CD2T-TR
designator IC?, comment L7815
IC REG LINEAR 15V 1.5A D2PAK; Manufacturer Part Number: L7815CD2T-TR; Category: Integrated Circuits (ICs); Package / Case: TO-263-3, D²Pak (2 Leads + Tab), TO-263AB
footprint DPAK254P1542X460-3N (D2-PAK, 3-Pads, Body 7,65x8,56mm (max), IPC Medium Density)
pins: 1 INP, 2 Adj, 3 OUT

## L7824CD2T-TR
designator IC?, comment L7824
IC REG LINEAR 24V 1.5A D2PAK; Manufacturer Part Number: L7824CD2T-TR; Category: Integrated Circuits (ICs); Package / Case: TO-263-3, D²Pak (2 Leads + Tab), TO-263AB
footprint DPAK254P1542X460-3N (D2-PAK, 3-Pads, Body 7,65x8,56mm (max), IPC Medium Density)
pins: 1 INP, 2 Adj, 3 OUT

## LG R971-KN-1
designator LED?, comment Green LED  (value not drawn)
LED GREEN DIFFUSED 0805 SMD; Manufacturer Part Number: LG R971-KN-1; Category: Optoelectronics; Package / Case: 0805 (2012 Metric)
footprint LED0805
pins: 1 Anode, 2 Cathode

## LM321
designator DA?
IC OPAMP GP 1.3MHZ RRO SOT23-5; Manufacturer Part Number: LMV321ILT; Category: Integrated Circuits (ICs); Package / Case: SC-74A, SOT-753
footprint SOT23-5 (SOT23, 5-Leads, Body 2,90x2,85mm, Pitch 0,95mm, IPC Medium Density)
pins: 1 IN1+ (in), 2 GND, 3 IN1- (in), 4 OUT1 (out), 5 Vcc

## LM358DT
designator DA?, comment LM358
Dual IC OPAMP GP 1.1MHZ 8SO; Manufacturer Part Number: LM358DT; Category: Integrated Circuits (ICs); Package / Case: 8-SOIC (0.154", 3.90mm Width); ComponentLink4URL: http://www.st.com/content/ccc/resource/technical/document/datasheet/61/46/87/01/98/ed/44/c5/CD00000464.pdf/files/CD00000464.pdf/jcr:content/translations/en.CD00000464.pdf; ComponentLink4Description: http://www.st.com/content/ccc/resource/technical/document/datasheet/61/46/87/01/98/ed/44/c5/CD00000464.pdf/files/CD00000464.pdf/jcr:content/translations/en.CD00000464.pdf
footprint SOIC_N (SOIC, 8-Leads, Body 4.9x3.9mm, Pitch 1.27mm, IPC Medium Density)
footprint SOIC_L (SOIC, 8-Leads, Body 4.9x3.9mm, Pitch 1.27mm, IPC High Density)
part A pins: 1 OUT1 (out), 2 IN1- (in), 3 IN1+ (in), 4 GND, 8 Vcc
part B pins: 5 IN2+ (in), 6 IN2- (in), 7 OUT2 (out)

## LM393DR
designator DA?, comment LM393
IC DUAL DIFF COMP 8-SOIC; Manufacturer Part Number: LM393DR; Category: Integrated Circuits (ICs); Package / Case: 8-SOIC (0.154", 3.90mm Width)
footprint SOIC_N (SOIC, 8-Leads, Body 4.9x3.9mm, Pitch 1.27mm, IPC Medium Density)
footprint SOIC_L (SOIC, 8-Leads, Body 4.9x3.9mm, Pitch 1.27mm, IPC High Density)
part A pins: 1 OUT1 (out), 2 IN1- (in), 3 IN1+ (in), 4 GND, 8 Vcc
part B pins: 5 IN2+ (in), 6 IN2- (in), 7 OUT2 (out)

## LM1085ISX
designator IC?, comment LM1085ISX-5V
IC REG LDO 5V 3A DDPAK; Manufacturer Part Number: LM1085ISX-5.0/NOPB; Category: Integrated Circuits (ICs); Package / Case: D²Pak (3 Leads + Tab)
footprint DPAK254P1435X469-4N (D2-PAK, 4-Pads, Body 7,55x8,56mm (max), IPC Medium Density(LM1085))
pins: 1 Adj, 2 OUT, 3 INP

## LM2596SX-5.0
designator IC?, comment LM2596 5v
IC REG BUCK 5V 3A TO263-5; Manufacturer Part Number: LM2596SX-5.0/NOPB; Category: Integrated Circuits (ICs); Package / Case: TO-263-6, D²Pak (5 Leads + Tab), TO-263BA
footprint DPAK170P1435X460-6N (D2-PAK, 6-Pads, Body 7,55x8,56mm (max), IPC Medium Density)
pins: 1 INP, 2 OUT, 3 GND, 4 FB, 5 ON/OFF

## LMV321ILT
designator DA?, comment LMV321
IC OPAMP GP 1.3MHZ RRO SOT23-5; Manufacturer Part Number: LMV321ILT; Category: Integrated Circuits (ICs); Package / Case: SC-74A, SOT-753
footprint SOT23-5 (SOT23, 5-Leads, Body 2,90x2,85mm, Pitch 0,95mm, IPC Medium Density)
pins: 1 IN1+ (in), 2 GND, 3 IN1- (in), 4 OUT1 (out), 5 Vcc

## LMV358IDT
designator DA?, comment LMV358
IC OPAMP GP 1.3MHZ RRO 8SO; Manufacturer Part Number: LMV358IDT; Category: Integrated Circuits (ICs); Package / Case: 8-SOIC (0.154", 3.90mm Width)
footprint SOIC_N (SOIC, 8-Leads, Body 4.9x3.9mm, Pitch 1.27mm, IPC Medium Density)
footprint SOIC_L (SOIC, 8-Leads, Body 4.9x3.9mm, Pitch 1.27mm, IPC High Density)
part A pins: 1 OUT1 (out), 2 IN1- (in), 3 IN1+ (in), 4 GND, 8 Vcc
part B pins: 5 IN2+ (in), 6 IN2- (in), 7 OUT2 (out)

## LTS 15-NP
designator TV?, comment LTS 15
SENSOR CURRENT HALL 15A AC/DC; Manufacturer Part Number: LTS 15-NP; Category: Sensors, Transducers; Package / Case: Ring Opening 0.126" Dia, 6 Leads
footprint LEM_LTS_Sensor
pins: 1 Vcc, 2 Gnd, 3 Out, 4 I+, 5 I-

## M24C32-WMN6TP
designator IC?, comment M24C32
IC EEPROM 32KBIT 400KHZ 8SO; Manufacturer Part Number: M24C32-WMN6TP; Category: Integrated Circuits (ICs); Package / Case: 8-SOIC (0.154", 3.90mm Width)
footprint SOIC_N (SOIC, 8-Leads, Body 4.9x3.9mm, Pitch 1.27mm, IPC Medium Density)
pins: 1 A1, 2 A2, 3 A3, 4 Vss, 5 SDA, 6 SCL, 7 WP, 8 Vcc

## MAX485
designator U?
IC TXRX RS485/RS422 8-SOIC; Manufacturer Part Number: MAX485CSA+T; Category: Integrated Circuits (ICs); Package / Case: 8-SOIC (0.154", 3.90mm Width); ComponentLink2URL: http://datasheets.maximintegrated.com/en/ds/MAX1487-MAX491.pdf; ComponentLink2Description: http://datasheets.maximintegrated.com/en/ds/MAX1487-MAX491.pdf
footprint SOIC_N (SOIC, 8-Leads, Body 4.9x3.9mm, Pitch 1.27mm, IPC Medium Density)
pins: 1 N/C, 2 Anode, 3 Cathode, 4 N/C, 5 Vee, 6 Vo, 7 Vo, 8 Vcc
text: B; A; Gnd

## MBRD660CT
designator D?
DIODE ARRAY SCHOTTKY 60V 3A DPAK; Manufacturer Part Number: MBRD660CTG; Category: Discrete Semiconductor Products; Package / Case: TO-252-3, DPak (2 Leads + Tab), SC-63
footprint DPAK369C (D-PAK, 3-Pads, Body 6,10x6,61mm (max), IPC Medium Density)
pins: 1 Anode, 3 Anode, 4 Cathode

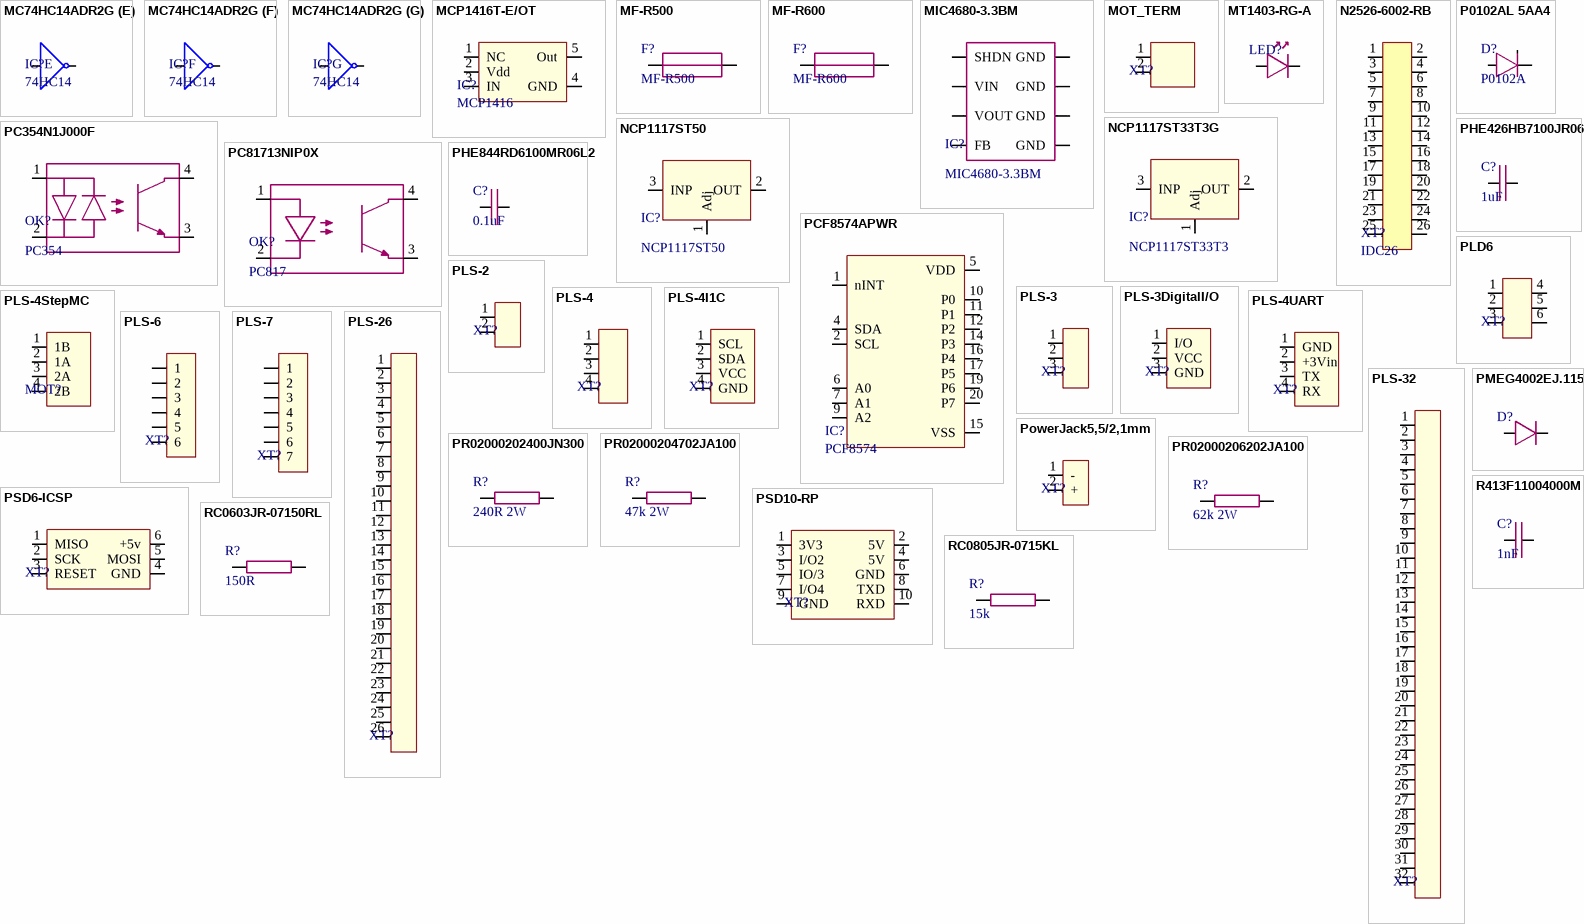
[diagram p3: symbols MC74HC14ADR2G to RC0805JR-0715KL]

## MC74HC14ADR2G
designator IC?, comment 74HC14
IC INVERTER HEX SCHMITT 14SOIC; Manufacturer Part Number: MC74HC14ADR2G; Category: Integrated Circuits (ICs); Package / Case: 14-SOIC (0.154", 3.90mm Width)
footprint SOIC-14N (SOIC, 14-Leads, Body 8,65x3,90mm, Pitch 1,27mm, IPC Medium Density)
footprint SSOP14 (SOP, 14-Leads, Body 6,20x5,30mm, Pitch 0,65mm, IPC Medium Density)
part A pins: 7 Gnd, 14 Vcc
part B pins: 1, 2
part C pins: 3, 4
part D pins: 5, 6
part E pins: 8, 9
part F pins: 10, 11
part G pins: 12, 13

## MCP1416T-E/OT
designator IC?, comment MCP1416
IC MOSFET DVR 1.5A HS SOT23-5; Manufacturer Part Number: MCP1416T-E/OT; Category: Integrated Circuits (ICs); Package / Case: SC-74A, SOT-753,sot23/5
footprint SOT23-5 (SOT23, 5-Leads, Body 2,90x2,85mm, Pitch 0,95mm, IPC Medium Density)
pins: 1 NC, 2 Vdd, 3 IN, 4 GND, 5 Out

## MF-R500
designator F?
FUSE PTC RESETTABLE 5A HOLD; Category: Circuit Protection; Manufacturer Part Number: MF-R500; Package / Case: Radial, Disc
footprint RUEF500
pins: 1, 2

## MF-R600
designator F?
FUSE PTC RESETTABLE 6A HOLD; Category: Circuit Protection; Manufacturer Part Number: MF-R600; Package / Case: Radial, Disc
footprint RUEF500
pins: 1, 2

## MIC4680-3.3BM
designator IC?
BUCK CONV 3.3V 1A; Category: Discrete Semiconductor Products; Manufacturer Part Number: MIC4680-3.3BM; Package / Case: SOIC8
footprint SOIC_N (SOIC, 8-Leads, Body 4.9x3.9mm, Pitch 1.27mm, IPC Medium Density)
pins: 1 SHDN, 2 VIN, 3 VOUT, 4 FB, 5 GND, 6 GND, 7 GND, 8 GND

## MOT_TERM
designator XT?, comment DCMOT  (value not drawn)
TERM BLOCK 2POS 5.08MM PCB HORIZ; Manufacturer Part Number: 20020316-H021B01LF; Category: Connectors, Interconnects
footprint Terminal2X (Terminal BLOCK 5mm, 2 wires)
pins: 1, 2

## MT1403-RG-A
designator LED?, comment D3RED  (value not drawn)
LED RED CLEAR 3MM ROUND T/H; Manufacturer Part Number: MT1403-RG-A; Category: Optoelectronics; Package / Case: Radial
footprint LED_D3x20mm
pins: 1 Anode, 2 Cathode

## N2526-6002-RB
designator XT?, comment IDC26
CONN HEADER 26 POS STRGHT GOLD; Manufacturer Part Number: N2526-6002-RB; Category: Connectors, Interconnects
footprint IDC26Vert
pins: 1, 2, 3, 4, 5, 6, 7, 8, 9, 10, 11, 12, 13, 14, 15, 16, 17, 18, 19, 20, 21, 22, 23, 24, 25, 26

## NCP1117ST33T3G
designator IC?, comment NCP1117ST33T3
IC REG LINEAR 3.3V 1A SOT223; Manufacturer Part Number: NCP1117ST33T3G; Category: Integrated Circuits (ICs); Package / Case: TO-261-4, TO-261AA
footprint SOT-223
pins: 1 Adj, 2 OUT, 3 INP

## NCP1117ST50
designator IC?
IC REG LDO 5V 1A SOT223; Manufacturer Part Number: NCP1117LPST50T3G; Category: Integrated Circuits (ICs); Package / Case: SOT-223
footprint SOT-223
pins: 1 Adj, 2 OUT, 3 INP

## P0102AL 5AA4
designator D?, comment P0102A
SCR 0.8A 100V SOT-23; Manufacturer Part Number: P0102AL 5AA4; Category: Discrete Semiconductor Products; Package / Case: TO-236-3, SC-59, SOT-23-3
footprint SOT-23
pins: 1 Cathode, 2 Gate, 3 Anode

## PC354N1J000F
designator OK?, comment PC354
OPTOISOLATOR 3.75KV TRANS 4-SMD; Manufacturer Part Number: PC354N1J000F; Category: Isolators; Package / Case: 4-SMD, Gull Wing
footprint 4-SOP
pins: 1, 2, 3, 4

## PC81713NIP0X
designator OK?, comment PC817
OPTOISOLATOR 5KV TRANS 4SMD; Manufacturer Part Number: PC81713NIP0X; Category: Isolators; Package / Case: 4-SMD, Gull Wing
footprint PC817SMD
pins: 1, 2, 3, 4

## PCF8574APWR
designator IC?, comment PCF8574
IC I/O EXPANDER I2C 8B 20TSSOP; Manufacturer Part Number: PCF8574APWR; Package / Case: 20-TSSOP (0.173", 4.40mm Width); Category: Integrated Circuits (ICs)
footprint SSOP-20N (TSOP, 20-Leads, Body 6,50x4,40mm, Pitch 0,65mm, IPC Medium Density)
pins: 1 nINT, 2 SCL, 4 SDA, 5 VDD, 6 A0, 7 A1, 9 A2, 10 P0, 11 P1, 12 P2, 14 P3, 15 VSS, 16 P4, 17 P5, 19 P6, 20 P7

## PHE426HB7100JR06
designator C?, comment 1uF
CAP FILM 1UF 5% 250VDC RADIAL; Manufacturer Part Number: PHE426HB7100JR06; Category: Capacitors; Package / Case: Radial
footprint CAPPeach15mm (18x10x16)
pins: 1, 2

## PHE844RD6100MR06L2
designator C?, comment 0.1uF
CAP FILM 0.1UF 20% 1KVDC RADIAL; Manufacturer Part Number: PHE844RD6100MR06L2; Category: Capacitors; Package / Case: Radial
footprint CAPPacitorDH (Peach 22.5mm)
pins: 1, 2

## PLD6
designator XT?  (value not drawn)
DIL VERTICAL PC TAIL PIN HEADER; Manufacturer Part Number: M20-9980346; Category: Connectors, Interconnects
footprint PLD6
pins: 1, 2, 3, 4, 5, 6

## PLS-2
designator XT?  (value not drawn)
SIL VERTICAL PC TAIL PIN HEADER; Manufacturer Part Number: M20-9990246; Category: Connectors, Interconnects
footprint PLS-2
pins: 1, 2

## PLS-3
designator XT?  (value not drawn)
SIL VERTICAL PC TAIL PIN HEADER; Manufacturer Part Number: M20-9990346; Category: Connectors, Interconnects
footprint PLS-3
pins: 1, 2, 3

## PLS-3DigitalI/O
designator XT?  (value not drawn)
SIL VERTICAL PC TAIL PIN HEADER; Manufacturer Part Number: M20-9990346; Category: Connectors, Interconnects
footprint PLS-3
pins: 1 I/O, 2 VCC, 3 GND

## PLS-4
designator XT?  (value not drawn)
CONN HEADER 4POS .100 STR TIN; Manufacturer Part Number: 68000-404HLF; Category: Connectors, Interconnects
footprint PLS-4
pins: 1, 2, 3, 4

## PLS-4I1C
designator XT?  (value not drawn)
CONN HEADER 4POS .100 STR TIN; Manufacturer Part Number: 68000-404HLF; Category: Connectors, Interconnects
footprint PLS-4
pins: 1 SCL, 2 SDA, 3 VCC, 4 GND

## PLS-4StepMC
designator MOT?  (value not drawn)
CONN HEADER 4POS .100 STR TIN; Manufacturer Part Number: 68000-404HLF; Category: Connectors, Interconnects
footprint PLS-4
pins: 1 1B, 2 1A, 3 2A, 4 2B

## PLS-4UART
designator XT?, comment UART  (value not drawn)
CONN HEADER 4POS .100 STR TIN; Manufacturer Part Number: 68000-404HLF; Category: Connectors, Interconnects
footprint PLS-4
pins: 1 GND, 2 +3Vin, 3 TX, 4 RX

## PLS-6
designator XT?  (value not drawn)
CONN HEADER 6POS .100 STR TIN; Manufacturer Part Number: 68000-407HLF; Category: Connectors, Interconnects
footprint PLS-6
pins: 1, 2, 3, 4, 5, 6

## PLS-7
designator XT?  (value not drawn)
CONN HEADER 7POS .100 STR TIN; Manufacturer Part Number: 68000-407HLF; Category: Connectors, Interconnects
footprint PLS-7
pins: 1, 2, 3, 4, 5, 6, 7

## PLS-26
designator XT?  (value not drawn)
SIL VERTICAL PC TAIL PIN HEADER; Manufacturer Part Number: M20-9990346; Category: Connectors, Interconnects
footprint PLS-26female
pins: 1, 2, 3, 4, 5, 6, 7, 8, 9, 10, 11, 12, 13, 14, 15, 16, 17, 18, 19, 20, 21, 22, 23, 24, 25, 26

## PLS-32
designator XT?  (value not drawn)
SIL VERTICAL PC TAIL PIN HEADER; Manufacturer Part Number: M20-9990346; Category: Connectors, Interconnects
footprint PLS-32female
pins: 1, 2, 3, 4, 5, 6, 7, 8, 9, 10, 11, 12, 13, 14, 15, 16, 17, 18, 19, 20, 21, 22, 23, 24, 25, 26, 27, 28, 29, 30, 31, 32

## PMEG4002EJ.115
designator D?, comment PMEG4002  (value not drawn)
DIODE GEN PURP 75V 150MA SOD323; Manufacturer Part Number: PMEG4002EJ,115; Description: DIODE SCHOTTKY 40V 200MA SOD323F; Category: Discrete Semiconductor Products; Package / Case: SC-76, SOD-323; Base Part Number: 1N4148WX
footprint SOD323 (diode(in SMD pack))
pins: 1 Anode, 2 Cathode

## PowerJack5,5/2,1mm
designator XT?  (value not drawn)
SIL VERTICAL PC TAIL PIN HEADER; Manufacturer Part Number: FC68148; Category: Connectors, Interconnects
footprint PowerJack5.5x2.1
pins: 1 -, 2 +

## PR02000202400JN300
designator R?, comment 240R 2W
RES 240 OHM 2W 5% AXIAL; Manufacturer Part Number: PR02000202400JN300; Category: Resistors; Package / Case: Axial
footprint Resistor_2W (5x12mm)
footprint Resistor_2W_Vert (5x12mm)
pins: 1, 2

## PR02000204702JA100
designator R?, comment 47k 2W
RES 47K OHM 5% 2W AXIAL; Manufacturer Part Number: PR02000204702JA100; Category: Resistors; Package / Case: Axial
footprint Resistor_2W (5x12mm)
footprint Resistor_2W_Vert (5x12mm)
pins: 1, 2

## PR02000206202JA100
designator R?, comment 62k 2W
RES 62K OHM 2W 5% AXIAL; Manufacturer Part Number: PR02000206202JA100; Category: Resistors; Package / Case: Axial
footprint Resistor_2W (5x12mm)
footprint Resistor_2W_Vert (5x12mm)
pins: 1, 2

## PSD6-ICSP
designator XT?, comment ICSP  (value not drawn)
DIL VERTICAL PC TAIL PIN HEADER; Manufacturer Part Number: M20-9980346; Category: Connectors, Interconnects
footprint PLD6
pins: 1 MISO, 2 SCK, 3 RESET, 4 GND, 5 MOSI, 6 +5v

## PSD10-RP
designator XT?, comment RP  (value not drawn)
DIL VERTICAL PC TAIL PIN HEADER; Manufacturer Part Number: 67997-410HLF; Category: Connectors, Interconnects
footprint PLD10
pins: 1 3V3, 2 5V, 3 I/O2, 4 5V, 5 IO/3, 6 GND, 7 I/O4, 8 TXD, 9 GND, 10 RXD

## R413F11004000M
designator C?, comment 1nF
CAP FILM 1000PF 20% 1KVDC RADIAL; Manufacturer Part Number: R413F11004000M; Category: Capacitors; Package / Case: Radial
footprint CAPPeach10mm
pins: 1, 2

## RC0603JR-07150RL
designator R?, comment 150R
RES SMD 150 OHM 5% 1/10W 0603; Manufacturer Part Number: RC0603JR-07150RL; Category: Resistors; Package / Case: 0603 (1608 Metric)
footprint R0603
pins: 1, 2

## RC0805JR-0715KL
designator R?, comment 15k
RES SMD 15K OHM 5% 1/8W 0805; Manufacturer Part Number: RC0805JR-0715KL; Category: Resistors; Package / Case: 0805 (2012 Metric)
footprint R0805
pins: 1, 2

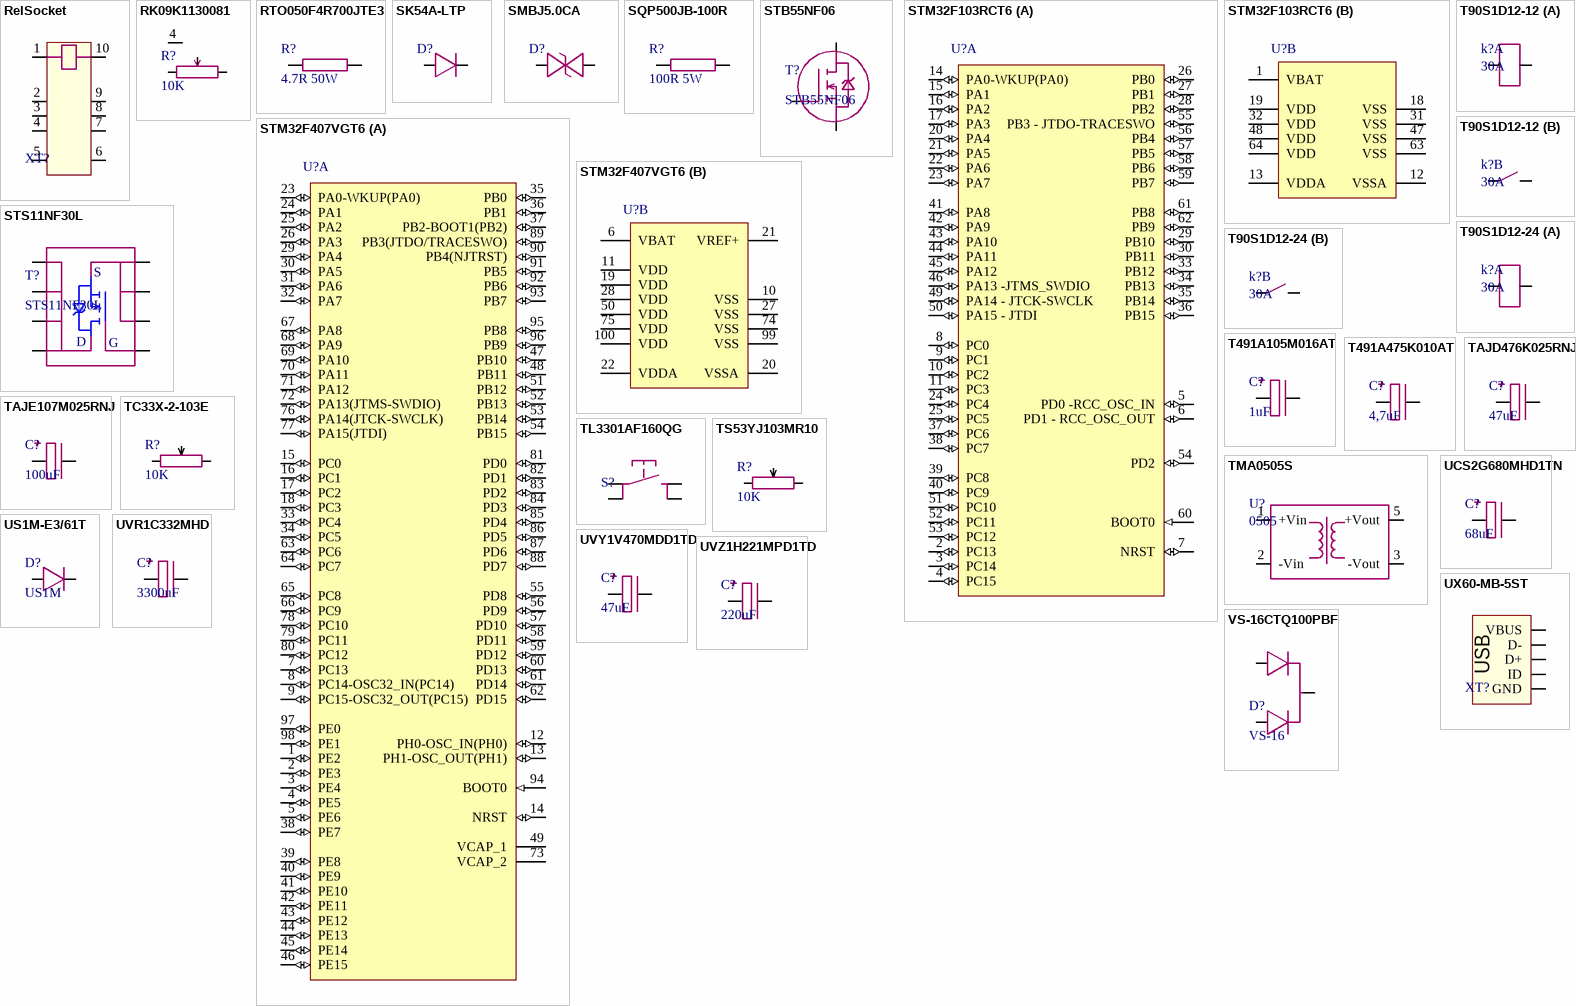
[diagram p4: symbols RelSocket to VS-16CTQ100PBF]

## RelSocket
designator XT?  (value not drawn)
REL SOCKET UNI 7.62x2.54 PITCH
footprint RelaySocket16Pin
pins: 1, 2, 3, 4, 5, 6, 7, 8, 9, 10

## RK09K1130081
designator R?, comment 10K
POT 10K OHM 1/20W  LINEAR; Manufacturer Part Number: RK09K1130081; Category: Potentiometers, Variable Resistors
footprint RK09K113 (RK09K113 20x7mm)
pins: 1, 2, 3, 4

## RTO050F4R700JTE3
designator R?, comment 4.7R 50W
RES 4.7 OHM 50W 5% AXIAL; Manufacturer Part Number: RTO050F4R700JTE3; Category: Resistors; Package / Case: Axial
footprint TO-220-2-hor (TO-220, 3x0.8 , P-2.54)
pins: 1, 2

## SK54A-LTP
designator D?  (value not drawn)
DIODE SCHOTTKY 5A 40V SMA; Category: Discrete Semiconductor Products; Manufacturer Part Number: SK54A-LTP; Package / Case: DO-214AC, SMA
footprint SMA (4007 diode(in SMD pack))
pins: 1 Anode, 2 Cathode

## SMBJ5.0CA
designator D?  (value not drawn)
TVS DIODE 5VWM 9.2VC DO214AA; Category: Circuit Protection; Manufacturer Part Number: SMBJ5.0CA; Package / Case: DO-214AA, SMB; ComponentLink1URL: http://www.bourns.com/docs/Product-Datasheets/SMBJ.pdf; ComponentLink1Description: http://www.bourns.com/docs/Product-Datasheets/SMBJ.pdf
footprint SMB (SMB pack)
pins: 1 Anode, 2 Cathode

## SQP500JB-100R
designator R?, comment 100R 5W
RES 100 OHM 5W 5% AXIAL; Manufacturer Part Number: SQP500JB-100R; Category: Resistors; Package / Case: Axial; ComponentLink3URL: http://www.yageo.com/documents/recent/Yageo%20LR_SQP%20NSP_2013.pdf; ComponentLink3Description: http://www.yageo.com/documents/recent/Yageo%20LR_SQP%20NSP_2013.pdf
footprint Resistor_5W (22x10x10)
pins: 1, 2

## STB55NF06
designator T?
MOSFET N-CH 60V 50A D2PAK; Manufacturer Part Number: STV55NF06; Category: Discrete Semiconductor Products; Package / Case: D²Pak (2 Leads + Tab)
footprint DPAK254P1542X460-3N (D2-PAK, 3-Pads, Body 7,65x8,56mm (max), IPC Medium Density)
pins: 1 GATE, 2 DRAIN, 3 SOURSE